# Altium integrated library LilyPad-Wearables.IntLib: 17 symbols
Pins are listed as number, name and electrical type; pins without a type are passive.

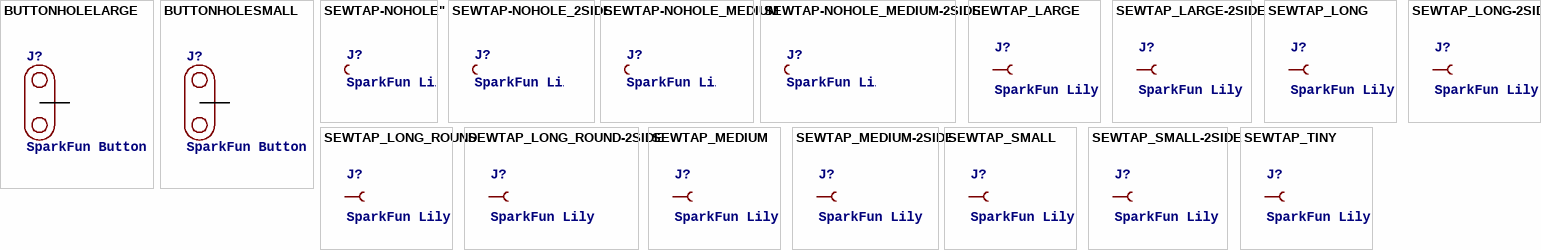
[diagram p0: symbols BUTTONHOLELARGE to SEWTAP_TINY]

## BUTTONHOLELARGE
designator J?, comment SparkFun Button Hole - Sewable button holes for connectors    Enables users to sew connections in wearables projects.   SparkFun Products:  MOSFET Power Controller
footprint BUTTONHOLE
pins: P$1

## BUTTONHOLESMALL
designator J?, comment SparkFun Button Hole - Sewable button holes for connectors    Enables users to sew connections in wearables projects.   SparkFun Products:  MOSFET Power Controller
footprint BUTTONHOLE-SM
pins: P$3 P$1

## SEWTAP-NOHOLE"
designator J?, comment SparkFun LilyPad Sew Taps without Holes    Petals used for PCB aesthetics. No connection points for circuits, and no hole available for sewing.   SparkFun Products:   LilyPad Vibe Board   LilyPad Accelerometer
footprint PETAL-NOHOLE

## SEWTAP-NOHOLE_2SIDE
designator J?, comment SparkFun LilyPad Sew Taps without Holes    Petals used for PCB aesthetics. No connection points for circuits, and no hole available for sewing.   SparkFun Products:   LilyPad Vibe Board   LilyPad Accelerometer
footprint PETAL-NOHOLE-2SIDE

## SEWTAP-NOHOLE_MEDIUM
designator J?, comment SparkFun LilyPad Sew Taps without Holes    Petals used for PCB aesthetics. No connection points for circuits, and no hole available for sewing.   SparkFun Products:   LilyPad Vibe Board   LilyPad Accelerometer
footprint PETAL-MEDIUM-NOHOLE

## SEWTAP-NOHOLE_MEDIUM-2SIDE
designator J?, comment SparkFun LilyPad Sew Taps without Holes    Petals used for PCB aesthetics. No connection points for circuits, and no hole available for sewing.   SparkFun Products:   LilyPad Vibe Board   LilyPad Accelerometer
footprint PETAL-MEDIUM-2SIDE-NOHOLE

## SEWTAP_LARGE
designator J?, comment SparkFun LilyPad Sew Taps    Sewable connection points for LilyPad Boards   SparkFun Products:  LilyPad Arduino 328 Main Board  LilyTiny  LilyPad Power Supply
footprint PETAL-LARGE
pins: 1

## SEWTAP_LARGE-2SIDE
designator J?, comment SparkFun LilyPad Sew Taps    Sewable connection points for LilyPad Boards   SparkFun Products:  LilyPad Arduino 328 Main Board  LilyTiny  LilyPad Power Supply
footprint PETAL-LARGE-2SIDE
pins: 1

## SEWTAP_LONG
designator J?, comment SparkFun LilyPad Sew Taps    Sewable connection points for LilyPad Boards   SparkFun Products:  LilyPad Arduino 328 Main Board  LilyTiny  LilyPad Power Supply
footprint PETAL-LONG-1
pins: 1

## SEWTAP_LONG-2SIDE
designator J?, comment SparkFun LilyPad Sew Taps    Sewable connection points for LilyPad Boards   SparkFun Products:  LilyPad Arduino 328 Main Board  LilyTiny  LilyPad Power Supply
footprint PETAL-LONG-1-2SIDE
pins: 1

## SEWTAP_LONG_ROUND
designator J?, comment SparkFun LilyPad Sew Taps    Sewable connection points for LilyPad Boards   SparkFun Products:  LilyPad Arduino 328 Main Board  LilyTiny  LilyPad Power Supply
footprint PETAL-LONG-2
pins: 1

## SEWTAP_LONG_ROUND-2SIDE
designator J?, comment SparkFun LilyPad Sew Taps    Sewable connection points for LilyPad Boards   SparkFun Products:  LilyPad Arduino 328 Main Board  LilyTiny  LilyPad Power Supply
footprint PETAL-LONG-2-2SIDE
pins: 1

## SEWTAP_MEDIUM
designator J?, comment SparkFun LilyPad Sew Taps    Sewable connection points for LilyPad Boards   SparkFun Products:  LilyPad Arduino 328 Main Board  LilyTiny  LilyPad Power Supply
footprint PETAL-MEDIUM
pins: 1

## SEWTAP_MEDIUM-2SIDE
designator J?, comment SparkFun LilyPad Sew Taps    Sewable connection points for LilyPad Boards   SparkFun Products:  LilyPad Arduino 328 Main Board  LilyTiny  LilyPad Power Supply
footprint PETAL-MEDIUM-2SIDE
pins: 1

## SEWTAP_SMALL
designator J?, comment SparkFun LilyPad Sew Taps    Sewable connection points for LilyPad Boards   SparkFun Products:  LilyPad Arduino 328 Main Board  LilyTiny  LilyPad Power Supply
footprint PETAL-SMALL
pins: 1

## SEWTAP_SMALL-2SIDE
designator J?, comment SparkFun LilyPad Sew Taps    Sewable connection points for LilyPad Boards   SparkFun Products:  LilyPad Arduino 328 Main Board  LilyTiny  LilyPad Power Supply
footprint PETAL-SMALL-2SIDE
pins: 1

## SEWTAP_TINY
designator J?, comment SparkFun LilyPad Sew Taps    Sewable connection points for LilyPad Boards   SparkFun Products:  LilyPad Arduino 328 Main Board  LilyTiny  LilyPad Power Supply
footprint PETAL-TINY
pins: 1